# Altium schematic symbol library header_shrouded.SchLib: 2 symbols
Pins are listed as number, name and electrical type; pins without a type are passive.

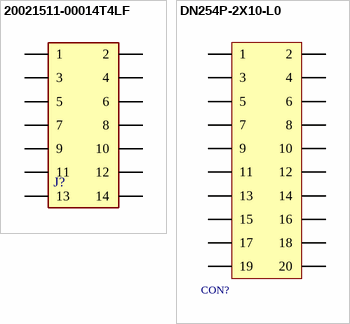
[diagram p0: symbols 20021511-00014T4LF to DN254P-2X10-L0]

## 20021511-00014T4LF
designator J?  (value not drawn)
1.27mm (0.05in.) pitch, Shrouded header, 14 contacts; Manufacturer: Amphenol ICC; Manufacturer Part Number: 20021511-00014T4LF; Category: Header Shrouded; Datasheet: https://cdn.amphenol-cs.com/media/wysiwyg/files/drawing/20021511.pdf; Temperature Max: 85; Temperature Min: -45
footprint 2002151100014T4LF
pins: 1, 2, 3, 4, 5, 6, 7, 8, 9, 10, 11, 12, 13, 14

## DN254P-2X10-L0
designator CON?  (value not drawn)
2.54mm pitch, 2x10 shrouded header; Manufacturer: Dealon; Manufacturer Part Number: DN254P-2X10-L0; Category: Header Shrouded; Datasheet: https://datasheet.lcsc.com/lcsc/2207150930_DEALON-DN254P-2X10-L0_C4749183.pdf; Temperature Max: -; Temperature Min: -
footprint DN254P-2X10-L0
pins: 1, 2, 3, 4, 5, 6, 7, 8, 9, 10, 11, 12, 13, 14, 15, 16, 17, 18, 19, 20